# EAGLE library part AMIGA4000-GARY (library Amiga)
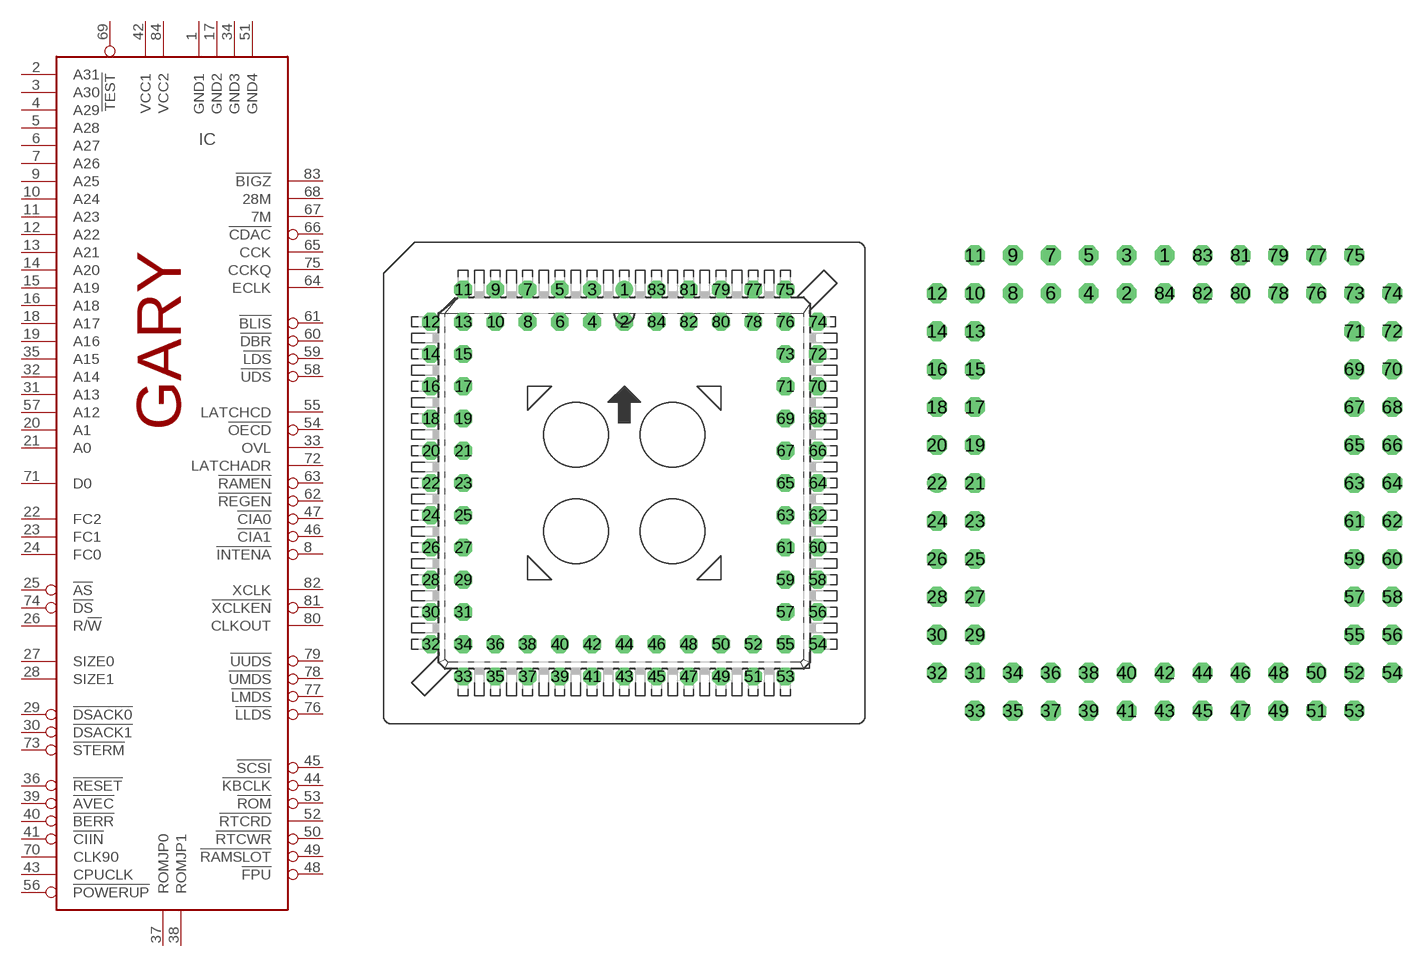
[diagram p18: symbol with the pads of PLCC84_T; footprints PLCC84_T, PLCC84_T_R]

Designator prefix IC

## AMIGA4000-GARY_THT  [PLCC84_T]
1  GND1  pwr
2  A31  in
3  A30  in
4  A29  in
5  A28  in
6  A27  in
7  A26  in
8  !INTENA  out
9  A25  in
10  A24  in
11  A23  in
12  A22  in
13  A21  in
14  A20  in
15  A19  in
16  A18  in
17  GND2  pwr
18  A17  in
19  A16  in
20  A1  in
21  A0  in
22  FC2  in
23  FC1  in
24  FC0  in
25  !AS  in
26  R/!W  in
27  SIZE0  in
28  SIZE1  in
29  !DSACK0
30  !DSACK1
31  A13  in
32  A14  in
33  OVL  in
34  GND3  pwr
35  A15  in
36  !RESET  out
37  ROMJP0  in
38  ROMJP1  in
39  !AVEC  out
40  !BERR  out
41  !CIIN  out
42  VCC1  pwr
43  CPUCLK  in
44  !KBCLK  in
45  !SCSI  out
46  !CIA1  out
47  !CIA0  out
48  !FPU  pas
49  !RAMSLOT  out
50  !RTCWR  out
51  GND4  pwr
52  !RTCRD  out
53  !ROM  out
54  !OECD  out
55  LATCHCD  out
56  !POWERUP  in
57  A12  in
58  !UDS  out
59  !LDS  out
60  !DBR  in
61  !BLIS  out
62  !REGEN  out
63  !RAMEN  out
64  ECLK  out
65  CCK  in
66  !CDAC  in
67  7M  in
68  28M  in
69  !TEST  in
70  CLK90  in
71  D0
72  LATCHADR  out
73  !STERM
74  !DS  in
75  CCKQ  in
76  !LLDS  out
77  !LMDS  out
78  !UMDS  out
79  !UUDS  out
80  CLKOUT  out
81  !XCLKEN  in
82  XCLK  in
83  !BIGZ  in
84  VCC2  pwr

## AMIGA4000-GARY_THT_SNAP_ON  [PLCC84_T_R]
Pads as for PLCC84_T

## AMIGA4000-GARY_SMD_SNAP_ON  [PLCC84_S_R]
Pads as for PLCC84_T

## AMIGA4000-GARY_SMD  [PLCC84_S]
Pads as for PLCC84_T

## Footprint PLCC84_T (pad centres in mm)
PLASTIC LEADED CHIP CARRIER square
drill 0.7 pad 1.4: 1 0,15.24
drill 0.7 pad 1.4 octagon: 2 0,12.7; 3 -2.54,15.24; 4 -2.54,12.7; 5 -5.08,15.24; 6 -5.08,12.7; 7 -7.62,15.24; 8 -7.62,12.7; 9 -10.16,15.24; 10 -10.16,12.7; 11 -12.7,15.24; 12 -15.24,12.7; 13 -12.7,12.7; 14 -15.24,10.16; 15 -12.7,10.16; 16 -15.24,7.62; 17 -12.7,7.62; 18 -15.24,5.08; 19 -12.7,5.08; 20 -15.24,2.54; 21 -12.7,2.54; 22 -15.24,0; 23 -12.7,0; 24 -15.24,-2.54; 25 -12.7,-2.54; 26 -15.24,-5.08; 27 -12.7,-5.08; 28 -15.24,-7.62; 29 -12.7,-7.62; 30 -15.24,-10.16; 31 -12.7,-10.16; 32 -15.24,-12.7; 33 -12.7,-15.24; 34 -12.7,-12.7; 35 -10.16,-15.24; 36 -10.16,-12.7; 37 -7.62,-15.24; 38 -7.62,-12.7; 39 -5.08,-15.24; 40 -5.08,-12.7; 41 -2.54,-15.24; 42 -2.54,-12.7; 43 0,-15.24; 44 0,-12.7; 45 2.54,-15.24; 46 2.54,-12.7; 47 5.08,-15.24; 48 5.08,-12.7; 49 7.62,-15.24; 50 7.62,-12.7; 51 10.16,-15.24; 52 10.16,-12.7; 53 12.7,-15.24; 54 15.24,-12.7; 55 12.7,-12.7; 56 15.24,-10.16; 57 12.7,-10.16; 58 15.24,-7.62; 59 12.7,-7.62; 60 15.24,-5.08; 61 12.7,-5.08; 62 15.24,-2.54; 63 12.7,-2.54; 64 15.24,0; 65 12.7,0; 66 15.24,2.54; 67 12.7,2.54; 68 15.24,5.08; 69 12.7,5.08; 70 15.24,7.62; 71 12.7,7.62; 72 15.24,10.16; 73 12.7,10.16; 74 15.24,12.7; 75 12.7,15.24; 76 12.7,12.7; 77 10.16,15.24; 78 10.16,12.7; 79 7.62,15.24; 80 7.62,12.7; 81 5.08,15.24; 82 5.08,12.7; 83 2.54,15.24; 84 2.54,12.7

## Footprint PLCC84_T_R (pad centres in mm)
MIRRORED PLCC SOCKET For piggy-back usage, mounted on solder side Filled arrow shows socket pin1 indicator, hollow arrow point to actual chip pin1
drill 0.813 octagon: 1 0,15.24; 2 -2.54,12.7; 3 -2.54,15.24; 4 -5.08,12.7; 5 -5.08,15.24; 6 -7.62,12.7; 7 -7.62,15.24; 8 -10.16,12.7; 9 -10.16,15.24; 10 -12.7,12.7; 11 -12.7,15.24; 12 -15.24,12.7; 13 -12.7,10.16; 14 -15.24,10.16; 15 -12.7,7.62; 16 -15.24,7.62; 17 -12.7,5.08; 18 -15.24,5.08; 19 -12.7,2.54; 20 -15.24,2.54; 21 -12.7,0; 23 -12.7,-2.54; 24 -15.24,-2.54; 25 -12.7,-5.08; 26 -15.24,-5.08; 27 -12.7,-7.62; 28 -15.24,-7.62; 29 -12.7,-10.16; 30 -15.24,-10.16; 31 -12.7,-12.7; 32 -15.24,-12.7; 33 -12.7,-15.24; 34 -10.16,-12.7; 35 -10.16,-15.24; 36 -7.62,-12.7; 37 -7.62,-15.24; 38 -5.08,-12.7; 39 -5.08,-15.24; 40 -2.54,-12.7; 41 -2.54,-15.24; 42 0,-12.7; 43 0,-15.24; 44 2.54,-12.7; 45 2.54,-15.24; 46 5.08,-12.7; 47 5.08,-15.24; 48 7.62,-12.7; 49 7.62,-15.24; 50 10.16,-12.7; 51 10.16,-15.24; 52 12.7,-12.7; 53 12.7,-15.24; 54 15.24,-12.7; 55 12.7,-10.16; 56 15.24,-10.16; 57 12.7,-7.62; 58 15.24,-7.62; 59 12.7,-5.08; 60 15.24,-5.08; 61 12.7,-2.54; 62 15.24,-2.54; 63 12.7,0; 64 15.24,0; 65 12.7,2.54; 66 15.24,2.54; 67 12.7,5.08; 68 15.24,5.08; 69 12.7,7.62; 70 15.24,7.62; 71 12.7,10.16; 72 15.24,10.16; 73 12.7,12.7; 74 15.24,12.7; 75 12.7,15.24; 76 10.16,12.7; 77 10.16,15.24; 78 7.62,12.7; 79 7.62,15.24; 80 5.08,12.7; 81 5.08,15.24; 82 2.54,12.7; 83 2.54,15.24; 84 0,12.7
drill 0.813: 22 -15.24,0

## Footprint PLCC84_S_R (pad centres in mm)
PLASTIC LEADED CHIP CARRIER SMD socket to be mounted from the solder side for piggy-back onto existing motherboard chip
smd 0.6 x 2.2 bottom: 1 0,14.5; 2 -1.27,14.5; 3 -2.54,14.5; 4 -3.81,14.5; 5 -5.08,14.5; 6 -6.35,14.5; 7 -7.62,14.5; 8 -8.89,14.5; 9 -10.16,14.5; 10 -11.43,14.5; 11 -12.7,14.5; 33 -12.7,-14.5; 34 -11.43,-14.5; 35 -10.16,-14.5; 36 -8.89,-14.5; 37 -7.62,-14.5; 38 -6.35,-14.5; 39 -5.08,-14.5; 40 -3.81,-14.5; 41 -2.54,-14.5; 42 -1.27,-14.5; 43 0,-14.5; 44 1.27,-14.5; 45 2.54,-14.5; 46 3.81,-14.5; 47 5.08,-14.5; 48 6.35,-14.5; 49 7.62,-14.5; 50 8.89,-14.5; 51 10.16,-14.5; 52 11.43,-14.5; 53 12.7,-14.5; 75 12.7,14.5; 76 11.43,14.5; 77 10.16,14.5; 78 8.89,14.5; 79 7.62,14.5; 80 6.35,14.5; 81 5.08,14.5; 82 3.81,14.5; 83 2.54,14.5; 84 1.27,14.5
smd 2.2 x 0.6 bottom: 12 -14.5,12.7; 13 -14.5,11.43; 14 -14.5,10.16; 15 -14.5,8.89; 16 -14.5,7.62; 17 -14.5,6.35; 18 -14.5,5.08; 19 -14.5,3.81; 20 -14.5,2.54; 21 -14.5,1.27; 22 -14.5,0; 23 -14.5,-1.27; 24 -14.5,-2.54; 25 -14.5,-3.81; 26 -14.5,-5.08; 27 -14.5,-6.35; 28 -14.5,-7.62; 29 -14.5,-8.89; 30 -14.5,-10.16; 31 -14.5,-11.43; 32 -14.5,-12.7; 54 14.5,-12.7; 55 14.5,-11.43; 56 14.5,-10.16; 57 14.5,-8.89; 58 14.5,-7.62; 59 14.5,-6.35; 60 14.5,-5.08; 61 14.5,-3.81; 62 14.5,-2.54; 63 14.5,-1.27; 64 14.5,0; 65 14.5,1.27; 66 14.5,2.54; 67 14.5,3.81; 68 14.5,5.08; 69 14.5,6.35; 70 14.5,7.62; 71 14.5,8.89; 72 14.5,10.16; 73 14.5,11.43; 74 14.5,12.7

## Footprint PLCC84_S (pad centres in mm)
PLASTIC LEADED CHIP CARRIER square
smd 0.76 x 1.8: 1 0,14.21; 2 -1.27,14.21; 3 -2.54,14.21; 4 -3.81,14.21; 5 -5.08,14.21; 6 -6.35,14.21; 7 -7.62,14.21; 8 -8.89,14.21; 9 -10.16,14.21; 10 -11.43,14.21; 11 -12.7,14.21; 33 -12.7,-14.21; 34 -11.43,-14.21; 35 -10.16,-14.21; 36 -8.89,-14.21; 37 -7.62,-14.21; 38 -6.35,-14.21; 39 -5.08,-14.21; 40 -3.81,-14.21; 41 -2.54,-14.21; 42 -1.27,-14.21; 43 0,-14.21; 44 1.27,-14.21; 45 2.54,-14.21; 46 3.81,-14.21; 47 5.08,-14.21; 48 6.35,-14.21; 49 7.62,-14.21; 50 8.89,-14.21; 51 10.16,-14.21; 52 11.43,-14.21; 53 12.7,-14.21; 75 12.7,14.21; 76 11.43,14.21; 77 10.16,14.21; 78 8.89,14.21; 79 7.62,14.21; 80 6.35,14.21; 81 5.08,14.21; 82 3.81,14.21; 83 2.54,14.21; 84 1.27,14.21
smd 1.8 x 0.76: 12 -14.21,12.7; 13 -14.21,11.43; 14 -14.21,10.16; 15 -14.21,8.89; 16 -14.21,7.62; 17 -14.21,6.35; 18 -14.21,5.08; 19 -14.21,3.81; 20 -14.21,2.54; 21 -14.21,1.27; 22 -14.21,0; 23 -14.21,-1.27; 24 -14.21,-2.54; 25 -14.21,-3.81; 26 -14.21,-5.08; 27 -14.21,-6.35; 28 -14.21,-7.62; 29 -14.21,-8.89; 30 -14.21,-10.16; 31 -14.21,-11.43; 32 -14.21,-12.7; 54 14.21,-12.7; 55 14.21,-11.43; 56 14.21,-10.16; 57 14.21,-8.89; 58 14.21,-7.62; 59 14.21,-6.35; 60 14.21,-5.08; 61 14.21,-3.81; 62 14.21,-2.54; 63 14.21,-1.27; 64 14.21,0; 65 14.21,1.27; 66 14.21,2.54; 67 14.21,3.81; 68 14.21,5.08; 69 14.21,6.35; 70 14.21,7.62; 71 14.21,8.89; 72 14.21,10.16; 73 14.21,11.43; 74 14.21,12.7